# Altium schematic symbol library XC6220B331MR-G.SchLib: 1 symbol
Pins are listed as number, name and electrical type; pins without a type are passive.

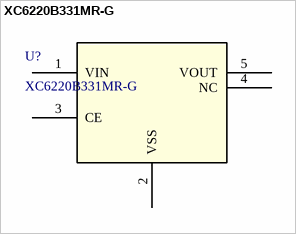
[diagram p0: symbol XC6220B331MR-G]

## XC6220B331MR-G
designator U?
Description; Manufacturer_Name: Torex Semiconductor; Copyright: Copyright (C) 2025 Ultra Librarian. All rights reserved.; Manufacturer_Part_Number: XC6220B331MR-G; RefDes: RefDes; Type: Type
footprint SOT-25_TOR
pins: 1 VIN (power), 2 VSS (power), 3 CE, 4 NC, 5 VOUT